# Altium footprint library Gan_cuk converter.PcbLib: 51 footprints (part 4 of 4)
Each footprint in its own frame and in the unit in brackets; x right, y up, seen from the top. Pads: shape width x height; smd on the part's side, far side on the other; paste and mask are expansions set on the pad; w line width, h text height; cw(c..) or ccw(c..) is an arc to the next point about the centre after c.
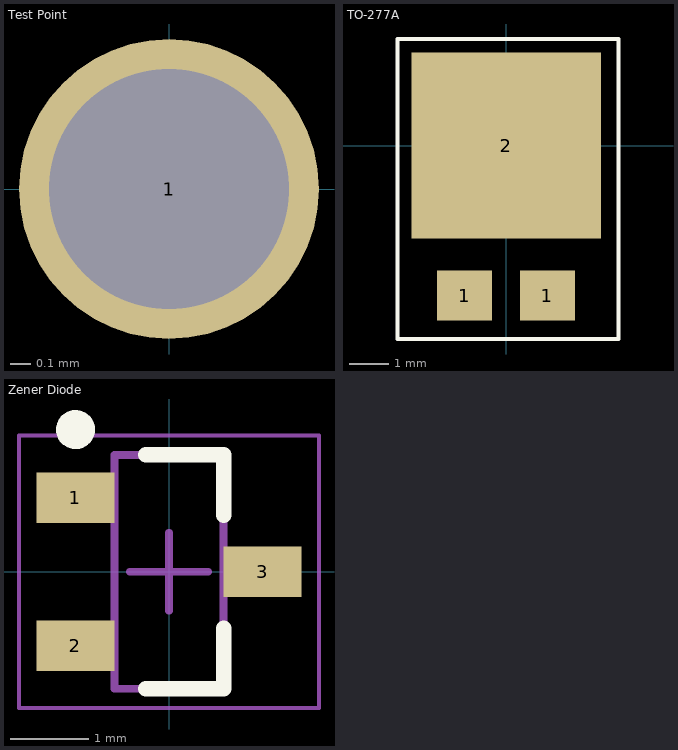
[diagram p3: the footprints below, top view; thin cyan lines are the x and y axes]

## Test Point [mm]
pads (1):
  round 1.5 hole 1.2: 1(0,0)
3D body: height 5.08, standoff 0, extent -0.63,-0.634 0.635,0.634

## TO-277A [mm] "Diode"
height 1.2
pads (3):
  rect 1.4x1.27 smd: 1(-1.05,-3.8) 1(1.05,-3.8)
  rect 4.8x4.72 smd: 2(0,0)
Top Overlay:
  lines w0.1: -2.75,-4.9 2.85,-4.9 2.85,2.7 -2.75,2.7 -2.75,-4.65 -2.75,-4.9

## Zener Diode [mm]
height 1
pads (3):
  rect 1x0.65 smd: 1(-1.2,0.95) 2(-1.2,-0.95) 3(1.2,0)
Top Overlay:
  circle w0.25: c-1.2,1.825 r0.125
  lines w0.2: -0.3,-1.5 0.7,-1.5 0.7,-0.725 ; -0.3,1.5 0.7,1.5 0.7,0.725
Mechanical 13:
  lines w0.1: -0.7,-1.5 0.7,-1.5 0.7,1.5 -0.7,1.5 -0.7,-1.5
Mechanical 15:
  lines w0.05: -1.925,-1.75 1.925,-1.75 1.925,1.75 -1.925,1.75 -1.925,-1.75
  lines w0.1: -0.5,0 0.5,0 ; 0,-0.5 0,0.5
3D body: height 1.1, standoff 0.05, extent -0.7,-1.5 0.7,1.5